# EAGLE library part LTC3440 (library DC-DC convertor)
LTC3440 DC-DC converter UP and Down DC-DC converter. Producted by LINEAR TECHNOLOGY.Co
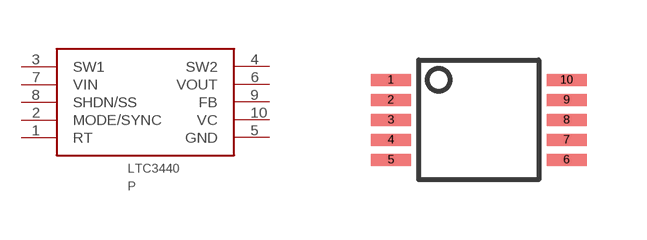
[diagram p0: symbol with the pads of MS10(10PIN,MSOP); footprint MS10(10PIN,MSOP)]

Designator prefix P

## LTC3440  [MS10(10PIN,MSOP)]
1  RT
2  MODE/SYNC
3  SW1
4  SW2
5  GND
6  VOUT
7  VIN
8  SHDN/SS
9  FB
10  VC

## Footprint MS10(10PIN,MSOP) (pad centres in mm)
MS10 package ; MSOP 10Pin (0.5pitch)
smd 1 x 0.3: 1 -2.2,1; 2 -2.2,0.5; 3 -2.2,0; 4 -2.2,-0.5; 5 -2.2,-1; 6 2.2,-1; 7 2.2,-0.5; 8 2.2,0; 9 2.2,0.5; 10 2.2,1